# Altium schematic symbol library con3.SchLib: 1 symbol
Pins are listed as number, name and electrical type; pins without a type are passive.

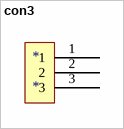
[diagram p0: symbol con3]

## con3
designator *
pins: 1, 2, 3